# Altium schematic symbol library GRM32ER71E226ME15L.SchLib: 2 symbols
Pins are listed as number, name and electrical type; pins without a type are passive.

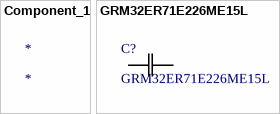
[diagram p0: symbols Component_1 to GRM32ER71E226ME15L]

## Component_1
designator *

## GRM32ER71E226ME15L
designator C?
22 µF ±20% 25V Ceramic Capacitor X7R 1210 (3225 Metric); Manufacturer_Name: Murata; Type: Ceramic Capacitors; Copyright: Copyright (C) 2025 Ultra Librarian. All rights reserved.; Manufacturer_Part_Number: GRM32ER71E226ME15L
footprint CAP_GRM32E_MUR
pins: 1, 2